# EAGLE library part TEXAS_INSTRUMENTS-CAN_TRANSCEIVER-TCAN1042VDRQ1 (library Module_ICs)
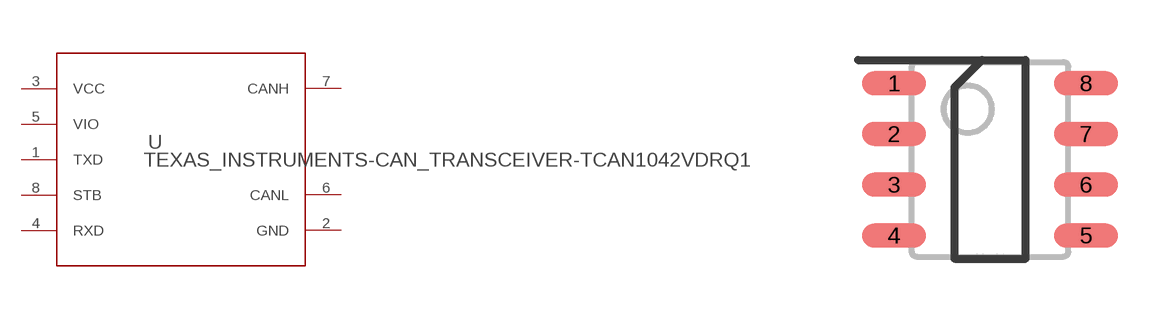
[diagram p35: symbol with the pads of TEXAS_INSTRUMENTS-CAN_TRANSCEIVER-TCAN1042/LED_DRIVER-TLC59731DR; footprint TEXAS_INSTRUMENTS-CAN_TRANSCEIVER-TCAN1042/LED_DRIVER-TLC59731DR]

Designator prefix U

## TEXAS_INSTRUMENTS-CAN_TRANSCEIVER-TCAN1042VDRQ1 (MANUFACTURER: Texas Instruments; PARTNUMBER: TCAN1042VDRQ1; REFDES: RefDes; TYPE: TYPE; VALUE: Value)  [TEXAS_INSTRUMENTS-CAN_TRANSCEIVER-TCAN1042/LED_DRIVER-TLC59731DR]
1  TXD  in
2  GND  pwr
3  VCC  pwr
4  RXD  out
5  VIO  pwr
6  CANL
7  CANH
8  STB  in

## Footprint TEXAS_INSTRUMENTS-CAN_TRANSCEIVER-TCAN1042/LED_DRIVER-TLC59731DR (pad centres in mm)
smd 1.6 x 0.6: 1 -2.4,1.905; 2 -2.4,0.635; 3 -2.4,-0.635; 4 -2.4,-1.905; 5 2.4,-1.905; 6 2.4,-0.635; 7 2.4,0.635; 8 2.4,1.905